# Altium schematic symbol library AP33771DKZ-13.SchLib: 1 symbol
Pins are listed as number, name and electrical type; pins without a type are passive.

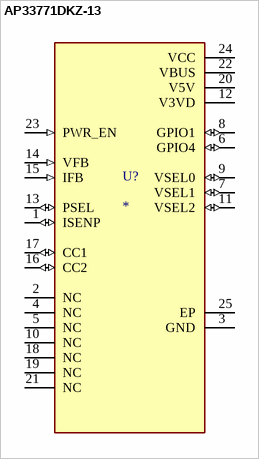
[diagram p0: symbol AP33771DKZ-13]

## AP33771DKZ-13
designator U?
MF: {'manufacturer': u'Diodes Incorporated'}; MP: AP33771DKZ-13; Package: None; Price: None; Value: *; Availability: Unavailable
footprint IC_AP33771DKZ-13
pins: 1 ISENP (io), 2 NC, 3 GND (power), 4 NC, 5 NC, 6 GPIO4 (io), 7 VSEL1 (io), 8 GPIO1 (io), 9 VSEL0 (io), 10 NC, 11 VSEL2 (io), 12 V3VD (power), 13 PSEL (io), 14 VFB (in), 15 IFB (in), 16 CC2 (io), 17 CC1 (io), 18 NC, 19 NC, 20 V5V (power), 21 NC, 22 VBUS (power), 23 PWR_EN (in), 24 VCC (power), 25 EP (power)